# Altium schematic symbol library BMS_V2.1_Adv.SchLib: 129 symbols (part 2 of 3)
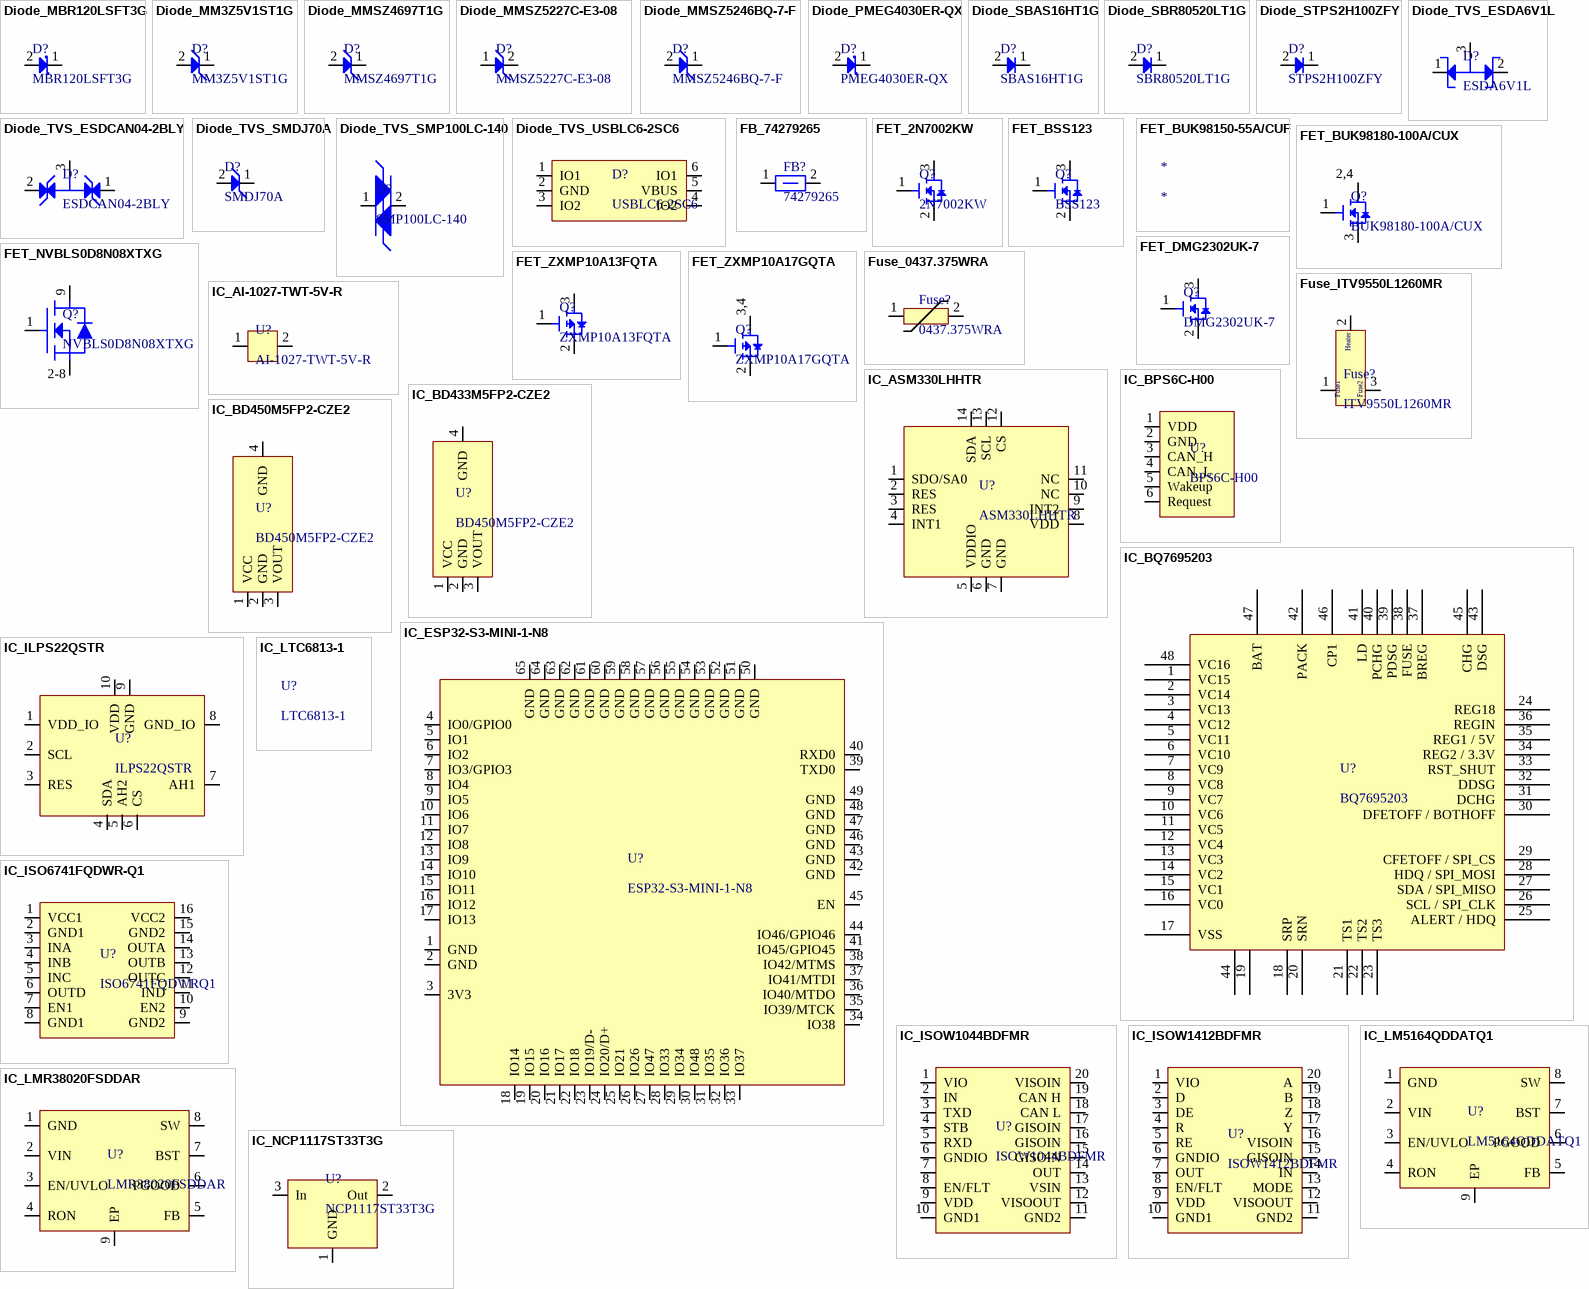
[diagram p5: symbols Diode_MBR120LSFT3G to IC_NCP1117ST33T3G]

## FET_BUK98180-100A/CUX
designator Q?, comment BUK98180-100A/CUX
N-Channel 100 V 4.6A (Tc) 8W (Tc) Surface Mount SOT-223; Manufacturer: Nexperia; AEC-Q: 101; Forward Voltage: 100V; Max Temp: 150 degC; Min Temp: -55 degC; Rds ON: 147mOhms @ 5A. 10V; Manufacturer Part Number: BUK98180-100A/CUX; Category: MOSFET; ComponentLink1Description: Datasheet; ComponentLink1URL: https://assets.nexperia.com/documents/data-sheet/BUK98180-100A.pdf; Forward Current: 4.6A; Mount Type: Surface Mount; Package: SOT 22-3; Power: 8W; RoHS: Yes; Supplier 1: Digikey; Supplier 1 Part Number: 1727-2225-1-ND; Supplier 1 pricing per Unit: 49.24 INR; Supplier: Mouser; Supplier Part Number: 771-BUK98180-100ACUX; Supplier pricing per Unit: 48.37 INR; Value 1: BUK98180-100A/CUX; Value: 100V 4.6A; Value Display: 100V 4.6A; Voltage: 100V; Channel: N-Channel
footprint SOT230P700X180-4N (SOT223, 4-Leads, Body 6.50x7.00mm (avg), Pitch 2.30mm, IPC Medium Density)
pins: 1 Gate, 2 Drain, 3 Source, 4 Drain
text: 2,4

## FET_DMG2302UK-7
designator Q?, comment DMG2302UK-7
N-Channel 20 V 2.8A (Ta) 660mW (Ta) Surface Mount SOT-23-3; Manufacturer: Diodes Inc.; AEC-Q: 101; Forward Voltage: 20V; Max Temp: 150 degC; Min Temp: -55 degC; Rds ON: 90mOhms @ 3.6A, 4.5V; Manufacturer Part Number: DMG2302UK-7; Value: 20V 2.8A; RoHS: Yes; Category: MOSFET; ComponentLink1Description: Datasheet; ComponentLink1URL: https://www.diodes.com/assets/Datasheets/DMG2302UK.pdf; Forward Current: 2.8A; Mount Type: Surface Mount; Package: SOT 23-3; Power: 660mW; Supplier 1: Digikey; Supplier 1 Part Number: DMG2302UK-7DICT-ND; Supplier 1 pricing per Unit: 28.35 INR; Supplier: Mouser; Supplier Part Number: 621-DMG2302UK-7; Supplier pricing per Unit: 22.52 INR; Value 1: DMG2302UK-7; Value Display: 20V 2.8A; Voltage: 20V; Channel: N-Channel
footprint SOT95P255X140-3N (SOT23, 3-Leads, Body 2.90x2.55mm, Pitch 0.95mm, IPC Medium Density)
pins: 1 Gate, 2 Source, 3 Drain

## FET_NVBLS0D8N08XTXG
designator Q?, comment NVBLS0D8N08XTXG
N-Channel 80 V 457A (Tc) 325W (Tc) Surface Mount 8-HPSOF; Manufacturer: OnSemi; Voltage: 80V; AEC-Q: 101; Max Temp: 175 degC; Min Temp: -55 degC; Rds ON: 0.79mOhms @80A,10V; Manufacturer Part Number: NVBLS0D8N08XTXG; Value: 80V 457A; Package: 8 HPSOF; RoHs: Yes; Category: MOSFET; Supplier: Mouser; Supplier 1 pricing per Unit: 575.53 INR; ComponentLink1Description: Datasheet; ComponentLink1URL: https://www.onsemi.com/download/data-sheet/pdf/nvbls0d8n08x-d.pdf; Supplier 1: Digikey; Value 1: NVBLS0D8N08XTXG; Value Display: 80V 457A; Supplier 1 Part Number: 488-NVBLS0D8N08XTXGCT-ND; Supplier Part Number: 863-NVBLS0D8N08XTXG; Supplier pricing per Unit: 574.63 INR; Mount Type: Surface Mount; Forward Current: 457A; Forward Voltage: 80V; Power: 325W; Channel: N-Channel
footprint DPAK120P1168X240-9N (TO, 9-Pads, Body 8.34x8.36mm (max), IPC Medium Density)
pins: 1 Gate, 2 Source, 3 Source, 4 Source, 5 Source, 6 Source, 7 Source, 8 Source, 9 Drain
text: 2-8

## FET_ZXMP10A13FQTA
designator Q?, comment ZXMP10A13FQTA
P-Channel 100 V 600mA (Ta) 625mW (Ta) Surface Mount SOT-23-3; Manufacturer: Diodes Inc.; AEC-Q: 101; Forward Voltage: 100V; Max Temp: 150 degC; Min Temp: -55 degC; Rds ON: 1Ohm @ 600mA, -10V; Category: MOSFET; ComponentLink1Description: Datasheet; ComponentLink1URL: https://www.diodes.com/assets/Datasheets/ZXMP10A13FQ.pdf; Forward Current: 600mA; Manufacturer Part Number: ZXMP10A13FQTA; Mount Type: Surface Mount; Package: SOT 23-3; Power: 625mW; RoHS: Yes; Supplier 1: Digikey; Supplier 1 Part Number: ZXMP10A13FQTADICT-ND; Supplier 1 pricing per Unit: 60.93 INR; Supplier: Mouser; Supplier Part Number: 621-ZXMP10A13FQTA; Supplier pricing per Unit: 55.80 INR; Value 1: ZXMP10A13FQTA; Value: 100V 600mA; Value Display: 100V 600mA; Voltage: 100V; Channel: P-Channel
footprint SOT95P255X140-3N (SOT23, 3-Leads, Body 2.90x2.55mm, Pitch 0.95mm, IPC Medium Density)
pins: 1 Gate, 2 Source, 3 Drain

## FET_ZXMP10A17GQTA
designator Q?, comment ZXMP10A17GQTA
P-Channel 100 V 2.4A (Ta) 2W (Ta) Surface Mount SOT-223-3; Manufacturer: Diodes Inc.; AEC-Q: 101; Forward Voltage: 100V; Max Temp: 150 degC; Min Temp: -55 degC; Rds ON: 350mΩ @ 2.4A @ -10V; Category: MOSFET; ComponentLink1Description: Datasheet; ComponentLink1URL: https://www.diodes.com/assets/Datasheets/ZXMP10A17GQ.pdf; Forward Current: 2.4A; Manufacturer Part Number: ZXMP10A17GQTA; Mount Type: Surface Mount; Package: SOT 23-3; Power: 2W; RoHS: Yes; Supplier 1: Digikey; Supplier 1 Part Number: ZXMP10A17GQTADICT-ND; Supplier 1 pricing per Unit: 85.13 INR; Supplier: Mouser; Supplier Part Number: 621-ZXMP10A17GQTA; Supplier pricing per Unit: 85.07 INR; Value 1: ZXMP10A17GQTA; Value: 100V 2.4A; Value Display: 100V 2.4A; Voltage: 100V; Channel: P-Channel
footprint SOT230P700X180-4N (SOT223, 4-Leads, Body 6.50x7.00mm (avg), Pitch 2.30mm, IPC Medium Density)
pins: 1 Gate, 2 Source, 3 Drain, 4 Drain
text: 3,4

## Fuse_0437.375WRA
designator Fuse?, comment 0437.375WRA
375 mA 125 V AC 125 V DC Fuse Board Mount (Cartridge Style Excluded) Surface Mount 1206 (3216 Metric); Manufacturer: LittleFuse; Value: 125V - 375mA; Max Temp: 150 degC; Min Temp: -55 degC; Voltage: 125V; AEC-Q: 200; Manufacturer Part Number: 0437.375WRA; Category: Fuse; ComponentLink1Description: Datasheet; ComponentLink1URL: https://www.littelfuse.com/~/media/electronics/datasheets/fuses/littelfuse_fuse_437a_datasheet.pdf.pdf; Mount Type: Surface Mount; Package: SMT; RoHS: Yes; Supplier 1: Digikey; Supplier 1 Part Number: 18-0437.375WRACT-ND; Supplier 1 pricing per Unit: 119.23 INR; Supplier: Mouser; Supplier Part Number: 576-0437.375WRA; Supplier pricing per Unit: 115.93 INR; Value 1: 0437.375WRA; Value Display: 125V - 375mA
footprint FUSE_0437.375WRA (0437.375WRA)
pins: 1, 2

## Fuse_ITV9550L1260MR
designator Fuse?, comment ITV9550L1260MR
60A 85 VDC Fuse Board Mount Surface Mount; Manufacturer: LittleFuse; Value: 80 V - 60 A; Max Temp: 65 degC; Min Temp: -10 degC; Voltage: 80V; AEC-Q: NA; Manufacturer Part Number: ITV9550L1260MR; Category: Fuse; ComponentLink1Description: Datasheet; ComponentLink1URL: https://mm.digikey.com/Volume0/opasdata/d220001/medias/docus/3734/ITV9550_30A_45A_60A_Series_2022.pdf; Mount Type: Surface Mount; Package: SMT; RoHS: Yes; Supplier 1: Digikey; Supplier 1 Part Number: 18-ITV9550L1260MRCT-ND; Supplier 1 pricing per Unit: 1276.55 INR; Supplier: Mouser; Supplier Part Number: 576-ITV9550L1260MR; Supplier pricing per Unit: 1030.82 INR; Value 1: ITV9550L1260MR; Value Display: 80 V - 60 A
footprint FUSE_ITV9550L1260MR (ITV9550L1260MR)
pins: 1, 2 Heater, 3
text: Fuse1; Fuse2

## IC_AI-1027-TWT-5V-R
designator U?, comment AI-1027-TWT-5V-R
Buzzers Indicator, Internally Driven Electromechanical/Magnetic 5 V 30mA 2.7kHz 80dB @ 5V, 10cm Through Hole PC Pins; Manufacturer: PUIaudio; AEC-Q: NA; Max Temp: 80 degC; Min Temp: -20 degC; Value Display: 5V - 30mA; Category: Buzzer; ComponentLink1Description: Datasheet; ComponentLink1URL: https://docs.google.com/gview?url=https://api.puiaudio.com/filename/AI-1027-TWT-5V-R.pdf&embedded=true; Manufacturer Part Number: AI-1027-TWT-5V-R; Mount Type: TH; Package: TH; RoHS: Yes; Supplier 1: Digikey; Supplier 1 Part Number: 668-1339-ND; Supplier 1 pricing per Unit: 124.45 INR; Supplier: Mouser; Supplier Part Number: 665-AI-1027TWT5VR; Supplier pricing per Unit: 123.43 INR; Value 1: AI-1027-TWT-5V-R; Value: 5V 30mA 2.7kHz; Voltage: 5V
footprint Buzzer (Buzzer - Through Hole)
pins: 1 +ve, 2 -ve

## IC_ASM330LHHTR
designator U?, comment ASM330LHHTR
Accelerometer, Gyroscope, Temperature, 6 Axis Sensor I2C, SPI Output; Manufacturer: ST; AEC-Q: 100; Max Temp: 105 degC; Min Temp: -40 degC; Value: 6D IMU; Voltage: 3.3V; Category: Inertial module; ComponentLink1Description: Datasheet; ComponentLink1URL: https://www.st.com/resource/en/datasheet/asm330lhh.pdf; Manufacturer Part Number: ASM330LHHTR; Mount Type: Surface Mount; Package: HLGA; RoHS: Yes; Supplier 1: Digikey; Supplier 1 Part Number: 497-19078-1-ND; Supplier 1 pricing per Unit: 850.9 INR; Supplier: Mouser; Supplier Part Number: 511-ASM330LHHTR; Supplier pricing per Unit: 810.11 INR; Value 1: ASM330LHHTR; Value Display: ASM330LHHTR
footprint QFN50P300X250X86-14N_ASM330LHHTR (QFN, 14-Leads, Body 3.00x2.50mm, Pitch 0.50mm, IPC Medium Density)
pins: 1 SDO/SA0, 2 RES, 3 RES, 4 INT1, 5 VDDIO, 6 GND, 7 GND, 8 VDD, 9 INT2, 10 NC, 11 NC, 12 CS, 13 SCL, 14 SDA

## IC_BD433M5FP2-CZE2
designator U?, comment BD450M5FP2-CZE2
Linear Voltage Regulator IC Positive Fixed 3.3V Output 500mA TO-263-3F; Manufacturer: ROHM Semiconductor; Manufacturer Part Number: BD433M5FP2-CZE2; AEC-Q: 100; Max Temp: 150 degC; Min Temp: -40 degC; Value: 3.3V - 500 mA; Category: LDO; ComponentLink1Description: Datasheet; ComponentLink1URL: https://fscdn.rohm.com/en/products/databook/datasheet/ic/power/linear_regulator/bd4xxm5xxx-c-e.pdf; Mount Type: Surface Mount; Package: TO263-3; RoHS: Yes; Supplier 1: Digikey; Supplier 1 Part Number: BD433M5FP2-CZE2CT-ND; Supplier 1 pricing per Unit: 234.52 INR; Supplier: Mouser; Supplier Part Number: 755-BD433M5FP2-CZE2; Supplier pricing per Unit: 234.35 INR; Value 1: BD433M5FP2-CZE2; Value Display: 3.3V - 500 mA; Voltage: 3.3V
footprint DPAK254P1530X470-4N (D2-PAK, 4-Pads, Body 7.68x8.74mm (max), IPC Medium Density)
pins: 1 VCC, 2 GND, 3 VOUT, 4 GND

## IC_BD450M5FP2-CZE2
designator U?, comment BD450M5FP2-CZE2
Linear Voltage Regulator IC Positive Fixed 5V Output 500mA TO-263-3F; Manufacturer: ROHM Semiconductor; AEC-Q: 100; Max Temp: 150 degC; Min Temp: -40 degC; Value: 5V - 500 mA; Category: LDO; ComponentLink1Description: Datasheet; ComponentLink1URL: https://fscdn.rohm.com/en/products/databook/datasheet/ic/power/linear_regulator/bd4xxm5xxx-c-e.pdf; Manufacturer Part Number: BD450M5FP2-CZE2; Mount Type: Surface Mount; Package: TO263-3; RoHS: Yes; Supplier 1: Digikey; Supplier 1 Part Number: BD450M5FP2-CZE2CT-ND; Supplier 1 pricing per Unit: 161.08 INR; Supplier: Mouser; Supplier Part Number: 755-BD450M5FP2-CZE2; Supplier pricing per Unit: 164.30 INR; Value 1: BD450M5FP2-CZE2; Value Display: 5V - 500 mA; Voltage: 5V
footprint DPAK254P1530X470-4N (D2-PAK, 4-Pads, Body 7.68x8.74mm (max), IPC Medium Density)
pins: 1 VCC, 2 GND, 3 VOUT, 4 GND

## IC_BPS6C-H00
designator U?, comment BPS6C-H00  (no BOM)
Battery Pressure Sensor; Manufacturer: Honeywell; AEC-Q: 100; Max Temp: 105 degC; Min Temp: -40 degC; Value: 12V - 30mA; Voltage: 12V; Category: Pressure Sensor; ComponentLink1Description: Datasheet; ComponentLink1URL: https://prod-edam.honeywell.com/content/dam/honeywell-edam/sps/siot/en-us/products/aero-and-transportation-sensing/aero-and-transportation-sensors/electric-vehicles-sensors/bps-series/documents/sps-sst-bps-series-datasheet-006004-en.pdf?download=false; Manufacturer Part Number: BPS6C-H00; Mount Type: Panel Mount; Package: Panel; RoHS: Yes; Supplier 1: Digikey; Supplier 1 Part Number: 480-BPS6C-H00-ND; Supplier 1 pricing per Unit: 6170.52 INR; Supplier: Mouser; Supplier Part Number: 785-BPS6C-H00; Supplier pricing per Unit: 5162.46 INR; Value 1: BPS6C-H00; Value Display: 12V - 30mA
pins: 1 VDD, 2 GND, 3 CAN_H, 4 CAN_L, 5 Wakeup, 6 Request

## IC_BQ7695203
designator U?, comment BQ7695203
SPI 5V LDO enabled; Manufacturer: Texas Instruments; Manufacturer Part Number: BQ7695203PFBR; Value: BQ7695203PFBR; Value Display: AFE; AEC-Q: NA; Max Temp: 85 degC; Min Temp: -40 degC; Communication: SPI; Package: TQFP; RoHS: Yes; Category: Battery Management IC; LDO: 5V; Supplier: Mouser; Supplier 1 pricing per Unit: 451.09 INR; ComponentLink1Description: Datasheet; ComponentLink1URL: https://www.ti.com/lit/ds/symlink/bq76952.pdf?ts=1714053938138&ref_url=https%253A%252F%252Fwww.ti.com%252Fproduct%252FBQ76952; Supplier 1: Digikey; Value 1: BQ7695203PFBR; Supplier 1 Part Number: 296-BQ7695203PFBRCT-ND; Supplier Part Number: 595-BQ7695203PFBR; Supplier pricing per Unit: 443.85 INR; Mount Type: Surface Mount
footprint TSQFP50P900X900X120-48N (TSQFP, 48-Leads, Body 7.00x7.00mm, Pitch 0.50mm, IPC Medium Density)
pins: 1 VC15, 2 VC14, 3 VC13, 4 VC12, 5 VC11, 6 VC10, 7 VC9, 8 VC8, 9 VC7, 10 VC6, 11 VC5, 12 VC4, 13 VC3, 14 VC2, 15 VC1, 16 VC0, 17 VSS, 18 SRP, 19, 20 SRN, 21 TS1, 22 TS2, 23 TS3, 24 REG18, 25 ALERT / HDQ, 26 SCL / SPI_CLK, 27 SDA / SPI_MISO, 28 HDQ / SPI_MOSI, 29 CFETOFF / SPI_CS, 30 DFETOFF / BOTHOFF, 31 DCHG, 32 DDSG, 33 RST_SHUT, 34 REG2 / 3.3V, 35 REG1 / 5V, 36 REGIN, 37 BREG, 38 FUSE, 39 PDSG, 40 PCHG, 41 LD, 42 PACK, 43 DSG, 44, 45 CHG, 46 CP1, 47 BAT, 48 VC16

## IC_ESP32-S3-MINI-1-N8
designator U?, comment ESP32-S3-MINI-1-N8
Multiprotocol Modules SMD module, ESP32-S3FN8, 8 MB SPI flash, PCB antenna; Manufacturer: Espressif; AEC-Q: NA; Data Flash: 8 MB; Max Temp: 85 degC; Min Temp: -40 degC; Value Display: MCU; Category: MCU; ComponentLink1Description: Datasheet; ComponentLink1URL: https://www.espressif.com/sites/default/files/documentation/esp32-s3-mini-1_mini-1u_datasheet_en.pdf; Manufacturer Part Number: ESP32-S3-MINI-1-N8; Mount Type: Surface Mount; Package: Module; RoHS: Yes; Supplier 1: Digikey; Supplier 1 Part Number: 1965-ESP32-S3-MINI-1-N8CT-ND; Supplier 1 pricing per Unit: 259.84 INR; Supplier: Mouser; Supplier Part Number: 356-ESP32-S3-MINI1N8; Supplier pricing per Unit: 258.54 INR; Value 1: ESP32-S3-MINI-1-N8; Value: ESP32-S3-MINI-1-N8
footprint ESP32-S3_MINI (Multiprotocol Modules SMD module, ESP32-S3FN8, 8 MB SPI flash, PCB antenna)
pins: 1 GND, 2 GND, 3 3V3, 4 IO0/GPIO0, 5 IO1, 6 IO2, 7 IO3/GPIO3, 8 IO4, 9 IO5, 10 IO6, 11 IO7, 12 IO8, 13 IO9, 14 IO10, 15 IO11, 16 IO12, 17 IO13, 18 IO14, 19 IO15, 20 IO16, 21 IO17, 22 IO18, 23 IO19/D-, 24 IO20/D+, 25 IO21, 26 IO26, 27 IO47, 28 IO33, 29 IO34, 30 IO48, 31 IO35, 32 IO36, 33 IO37, 34 IO38, 35 IO39/MTCK, 36 IO40/MTDO, 37 IO41/MTDI, 38 IO42/MTMS, 39 TXD0, 40 RXD0, 41 IO45/GPIO45, 42 GND, 43 GND, 44 IO46/GPIO46, 45 EN, 46 GND, 47 GND, 48 GND, 49 GND, 50 GND, 51 GND, 52 GND, 53 GND, 54 GND, 55 GND, 56 GND, 57 GND, 58 GND, 59 GND, 60 GND, 61 GND, 62 GND, 63 GND, 64 GND, 65 GND

## IC_ILPS22QSTR
designator U?, comment ILPS22QSTR
Pressure Sensor 3.77PSI ~ 58.89PSI (26kPa ~ 406kPa) Absolute 24 b 10-WFLGA; Manufacturer: ST; AEC-Q: NA; Max Temp: 105 degC; Min Temp: -40 degC; Value: 3.3V - 50uA; Voltage: 3.3V; Category: Pressure Sensor; ComponentLink1Description: Datasheet; ComponentLink1URL: https://www.st.com/resource/en/datasheet/ilps22qs.pdf; Manufacturer Part Number: ILPS22QSTR; Mount Type: Surface Mount; Package: HLGA; RoHS: Yes; Supplier 1: Digikey; Supplier 1 Part Number: 497-ILPS22QSTRCT-ND; Supplier 1 pricing per Unit: 377.56 INR; Supplier: Mouser; Supplier Part Number: 511-ILPS22QSTR; Supplier pricing per Unit: 395.35 INR; Value 1: ILPS22QSTR; Value Display: 3.3V - 50uA
footprint QFN50P200X200X80-10N (QFN, 10-Leads, Body 2.00x2.00mm, Pitch 0.50mm, IPC Medium Density)
pins: 1 VDD_IO, 2 SCL, 3 RES, 4 SDA, 5 AH2, 6 CS, 7 AH1, 8 GND_IO, 9 GND, 10 VDD

## IC_ISO6741FQDWR-Q1
designator U?, comment ISO6741FQDWRQ1
Digital Isolators Automotive, general-purpose, quad-channel, 3/1 digital isolator 16-SOIC -40 to 125; Manufacturer: Texas Instruments; AEC-Q: 100; Max Temp: 125 degC; Min Temp: -40 degC; Manufacturer Part Number: ISO6741FQDWRQ1; Category: Digital Isolator; ComponentLink1Description: Datasheet; ComponentLink1URL: https://www.ti.com/lit/ds/symlink/iso6741-q1.pdf?ts=1718348796855&ref_url=https%253A%252F%252Fwww.ti.com%252Fproduct%252FISO6741-Q1; Mount Type: Surface Mount; Package: DFM; RoHS: Yes; Supplier 1: Digikey; Supplier 1 Part Number: 296-ISO6741FQDWRQ1CT-ND; Supplier 1 pricing per Unit: 219.34 INR; Supplier: Mouser; Supplier Part Number: 595-ISO6741FQDWRQ1; Supplier pricing per Unit: 219.34 INR; Value 1: ISO6741FQDWRQ1; Value: ISO6741FQDWRQ1; Value Display: ISO6741FQDWRQ1
footprint SOIC127P1030X264-16N (SOIC, 16-Leads, Body 10.65x7.44mm, Pitch 1.27mm, IPC Medium Density)
pins: 1 VCC1, 2 GND1, 3 INA, 4 INB, 5 INC, 6 OUTD, 7 EN1, 8 GND1, 9 GND2, 10 EN2, 11 IND, 12 OUTC, 13 OUTB, 14 OUTA, 15 GND2, 16 VCC2

## IC_ISOW1044BDFMR
designator U?, comment ISOW1044BDFMR
1/1 Transceiver, Isolated Half CANbus 20-SOIC; Manufacturer: Texas Instruments; AEC-Q: NA; Max Temp: 125 degC; Min Temp: -40 degC; Voltage: 5V; Manufacturer Part Number: ISOW1044BDFMR; Category: Isolated CAN; ComponentLink1Description: Datasheet; ComponentLink1URL: https://www.ti.com/lit/ds/symlink/isow1044.pdf?ts=1694787726249&ref_url=https%253A%252F%252Fwww.ti.com%252Fsitesearch%252Fen-us%252Fdocs%252Funiversalsearch.tsp%253FlangPref%253Den-US%2526searchTerm%253DISOW1044BDFMR%2526nr%253D6; Mount Type: Surface Mount; Package: DFM; RoHS: Yes; Supplier 1: Digikey; Supplier 1 Part Number: 296-ISOW1044BDFMRCT-ND; Supplier 1 pricing per Unit: 736.25 INR; Supplier: Mouser; Supplier Part Number: 595-ISOW1044BDFMR; Supplier pricing per Unit: 881.54 INR; Value 1: ISOW1044BDFMR; Value: ISOW1044BDFMR; Value Display: ISOW1044BDFMR
footprint SOIC127P1030X355-20N (SOIC, 20-Leads, Body 12.83x7.50mm, Pitch 1.27mm, IPC Medium Density)
pins: 1 VIO, 2 IN, 3 TXD, 4 STB, 5 RXD, 6 GNDIO, 7, 8 EN/FLT, 9 VDD, 10 GND1, 11 GND2, 12 VISOOUT, 13 VSIN, 14 OUT, 15 GISOIN, 16 GISOIN, 17 GISOIN, 18 CAN L, 19 CAN H, 20 VISOIN

## IC_ISOW1412BDFMR
designator U?, comment ISOW1412BDFMR
RS-422/RS-485 Interface IC EMC protected, 500-Kbps, full-duplex, 5-kVrms isolated RS-485 & RS-422 transceiver 16-SOIC -40 to 125; Manufacturer: Texas Instruments; AEC-Q: NA; Max Temp: 125 degC; Min Temp: -40 degC; Voltage: 5V; Manufacturer Part Number: ISOW1412BDFMR; Category: Isolated RS485; ComponentLink1Description: Datasheet; ComponentLink1URL: https://www.ti.com/lit/ds/symlink/isow1432.pdf?ts=1718250901222&ref_url=https%253A%252F%252Fwww.mouser.in%252F; Mount Type: Surface Mount; Package: DFM; RoHS: Yes; Supplier 1: Digikey; Supplier 1 Part Number: 296-ISOW1412BDFMRCT-ND; Supplier 1 pricing per Unit: 742.42 INR; Supplier: Mouser; Supplier Part Number: 595-ISOW1412BDFMR; Supplier pricing per Unit: 885.71 INR; Value 1: ISOW1412BDFMR; Value: ISOW1412BDFMR; Value Display: ISOW1412BDFMR
footprint SOIC127P1030X355-20N (SOIC, 20-Leads, Body 12.83x7.50mm, Pitch 1.27mm, IPC Medium Density)
pins: 1 VIO, 2 D, 3 DE, 4 R, 5 RE, 6 GNDIO, 7 OUT, 8 EN/FLT, 9 VDD, 10 GND1, 11 GND2, 12 VISOOUT, 13 MODE, 14 IN, 15 GISOIN, 16 VISOIN, 17 Y, 18 Z, 19 B, 20 A

## IC_LM5164QDDATQ1
designator U?, comment LM5164QDDATQ1
Buck Switching Regulator IC Positive Adjustable 1.2V 1 Output 1A 8-PowerSOIC (0.154", 3.90mm Width); Manufacturer: Texas Instruments; AEC-Q: 100; Max Temp: 125 degC; Min Temp: -40 degC; Voltage: 6V - 100V; Manufacturer Part Number: LM5164QDDATQ1; Category: Buck Converter IC; ComponentLink1Description: Datasheet; ComponentLink1URL: https://www.ti.com/lit/ds/symlink/lm5164-q1.pdf?ts=1718880217387&ref_url=https%253A%252F%252Fwww.ti.com%252Fproduct%252FLM5164-Q1%253FkeyMatch%253DLM5164-Q1%2526tisearch%253Dsearch-everything%2526usecase%253DGPN-ALT%2526bm-verify%253DAAQAAAAJ_____xzDJXrq-9A6Xj2X6CFq4U9CnYJfOnv2-i7kAAIFlwommpyQTnIoeUIiXVf0FCMaQxNtdkc18Jt8pnunOvQ15Kp4etNz5oIc9Bs_kEF_oPeSsicw2ScVg56zPJbt7YbYx0wwCf9XDxBP5Az4MzGfKDlMecQltfQVG-VLUEYjJCBOJ_j59ZKl3FQN7qJBLN9hcVRnUMdn64UUYbZOk-oLyNDM26rG7hpc4ODnaksCDWovtauWfOC0qsAEpBpHJZyB34NdMAii5NuywNjw7AY6V45FFZ_U1hmrm5ZhetodyeETLVLy2EtvcFPGHwxhHgiMuDc_v0f7rPHePPwynHMFoEGJttwY9fxRHwP1UELUTe5KWElAsc5IpMKA6bgw5avwzDZ1itc3Yub4ncTS6wNFB1qKopSq7UnHM9iNE7H5zTzySldVEWy9KnPa8sdqrPvi6s3W9vYQJdMHEu476Eynz45_; Mount Type: Surface Mount; Package: DDA (SO Power PAD); RoHS: Yes; Supplier 1: Digikey; Supplier 1 Part Number: 296-LM5164QDDATQ1CT-ND; Supplier 1 pricing per Unit: 435.24 INR; Supplier: Mouser; Supplier Part Number: 595-LM5164QDDATQ1; Supplier pricing per Unit: 434.51 INR; Value 1: LM5164QDDATQ1; Value: LM5164QDDATQ1; Value Display: LM5164QDDATQ1
footprint SOIC127P600X170_HS-9N LM5164 (SOIC, 8-Leads, Body 4.90x3.90mm, Pitch 1.27mm, Thermal Pad 3.10x2.50mm, IPC Medium Density)
pins: 1 GND, 2 VIN, 3 EN/UVLO, 4 RON, 5 FB, 6 PGOOD, 7 BST, 8 SW, 9 EP

## IC_LMR38020FSDDAR
designator U?, comment LMR38020FSDDAR
Buck Switching Regulator IC Positive Adjustable 1V 1 Output 2A 8-PowerSOIC (0.154", 3.90mm Width); Manufacturer: Texas Instruments; AEC-Q: NA; Max Temp: 150 degC; Min Temp: -40 degC; Voltage: 4.5V - 80V; Category: Buck Converter IC; ComponentLink1Description: Datasheet; ComponentLink1URL: https://www.ti.com/lit/ds/symlink/lmr38020.pdf?ts=1730698175380&ref_url=https%253A%252F%252Fwww.ti.com%252Fproduct%252FLMR38020%253FkeyMatch%253DLMR38020%2526tisearch%253Duniversal_search; Manufacturer Part Number: LMR38020FSDDAR; Mount Type: Surface Mount; Package: DDA (SO Power PAD); RoHS: Yes; Supplier 1: Digikey; Supplier 1 Part Number: 296-LMR38020FSDDARCT-ND; Supplier 1 pricing per Unit: 207.70 INR; Supplier: Mouser; Supplier Part Number: 595-LMR38020FSDDAR; Supplier pricing per Unit: 206.00 INR; Value 1: LMR38020FSDDAR; Value: LMR38020FSDDAR; Value Display: LMR38020FSDDAR
footprint SOIC127P600X170_HS-9N LM5164 (SOIC, 8-Leads, Body 4.90x3.90mm, Pitch 1.27mm, Thermal Pad 3.10x2.50mm, IPC Medium Density)
pins: 1 GND, 2 VIN, 3 EN/UVLO, 4 RON, 5 FB, 6 PGOOD, 7 BST, 8 SW, 9 EP

## IC_LTC6813-1
designator U?, comment LTC6813-1
Category: Battery Management IC

## IC_NCP1117ST33T3G
designator U?, comment NCP1117ST33T3G
LDO Voltage Regulators 3.3V 1A Positive; Manufacturer: OnSemi; AEC-Q: NA; Max Temp: 125 degC; Min Temp: 0 degC; Value: 3.3V - 1A; Voltage: 20V (Max); Category: LDO; ComponentLink1Description: Datasheet; ComponentLink1URL: https://www.onsemi.com/pdf/datasheet/ncp1117-d.pdf; Manufacturer Part Number: NCP1117ST33T3G; Mount Type: Surface Mount; Package: SOT 22-3; RoHS: Yes; Supplier 1: Digikey; Supplier 1 Part Number: NCP1117ST33T3GOSCT-ND; Supplier 1 pricing per Unit: 93.9 INR; Supplier: Mouser; Supplier Part Number: 863-NCP1117ST33T3G; Supplier pricing per Unit: 56.71 INR; Value 1: NCP1117ST33T3G; Value Display: 3.3V - 1A
footprint SOT230P700X180-4N - NCP (SOT223, 4-Leads, Body 6.50x7.00mm (avg), Pitch 2.30mm, IPC Medium Density)
pins: 1 GND, 2 Out, 3 In

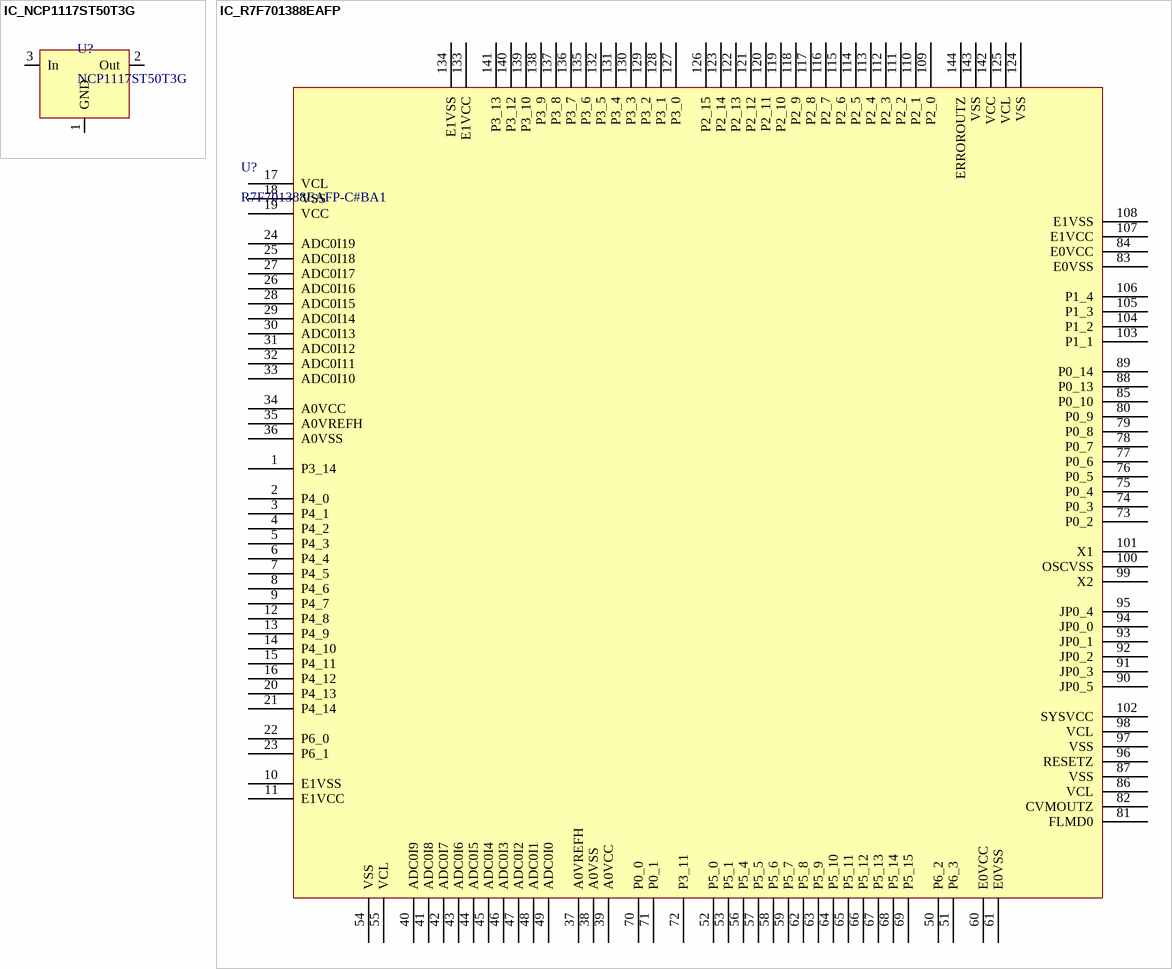
[diagram p2: symbols IC_NCP1117ST50T3G to IC_R7F701388EAFP]

## IC_NCP1117ST50T3G
designator U?, comment NCP1117ST50T3G
LDO Voltage Regulators 5V 1A Positive; Manufacturer: OnSemi; AEC-Q: NA; Max Temp: 125 degC; Min Temp: 0 degC; Value: 5V - 1A; Voltage: 20V (Max); Category: LDO; ComponentLink1Description: Datasheet; ComponentLink1URL: https://www.onsemi.com/pdf/datasheet/ncp1117-d.pdf; Manufacturer Part Number: NCP1117ST50T3G; Mount Type: Surface Mount; Package: SOT 22-3; RoHS: Yes; Supplier 1: Digikey; Supplier 1 Part Number: NCP1117ST50T3GOSCT-ND; Supplier 1 pricing per Unit: 94.18 INR; Supplier: Mouser; Supplier Part Number: 863-NCP1117ST50T3G; Supplier pricing per Unit: 56.71 INR; Value 1: NCP1117ST50T3G; Value Display: 5V - 1A
footprint SOT230P700X180-4N - NCP (SOT223, 4-Leads, Body 6.50x7.00mm (avg), Pitch 2.30mm, IPC Medium Density)
pins: 1 GND, 2 Out, 3 In

## IC_R7F701388EAFP
designator U?, comment R7F701388EAFP-C#BA1
32-bit Microcontrollers - MCU 32BIT MCU RH850/P1L-C 1MB LQFP144; Manufacturer: Renesas; AEC-Q: 100; Max Temp: 150 degC; Min Temp: -40 degC; RAM: 100KB; Value: 120 MHz; Manufacturer Part Number: R7F701388EAFP-C#BA1; Category: MCU; ComponentLink1Description: Datasheet; ComponentLink1URL: https://www.renesas.com/us/en/document/mah/rh850p1l-c-group-users-manual-hardware-r01uh0592ej0120?r=1054221; Data Flash: 1 MB; Mount Type: Surface Mount; Package: LQFP144; RoHS: Yes; Supplier 1: Digikey; Supplier 1 Part Number: 559-R7F701388EAFP-C#BA1-ND; Supplier 1 pricing per Unit: 1495.30 INR; Supplier: Mouser; Supplier Part Number: 968-7F701388EAFPCBA1; Supplier pricing per Unit: 979.12/720 INR; Value 1: R7F701388EAFP; Value Display: MCU
pins: 1 P3_14, 2 P4_0, 3 P4_1, 4 P4_2, 5 P4_3, 6 P4_4, 7 P4_5, 8 P4_6, 9 P4_7, 10 E1VSS, 11 E1VCC, 12 P4_8, 13 P4_9, 14 P4_10, 15 P4_11, 16 P4_12, 17 VCL, 18 VSS, 19 VCC, 20 P4_13, 21 P4_14, 22 P6_0, 23 P6_1, 24 ADC0I19, 25 ADC0I18, 26 ADC0I16, 27 ADC0I17, 28 ADC0I15, 29 ADC0I14, 30 ADC0I13, 31 ADC0I12, 32 ADC0I11, 33 ADC0I10, 34 A0VCC, 35 A0VREFH, 36 A0VSS, 37 A0VREFH, 38 A0VSS, 39 A0VCC, 40 ADC0I9, 41 ADC0I8, 42 ADC0I7, 43 ADC0I6, 44 ADC0I5, 45 ADC0I4, 46 ADC0I3, 47 ADC0I2, 48 ADC0I1, 49 ADC0I0, 50 P6_2, 51 P6_3, 52 P5_0, 53 P5_1, 54 VSS, 55 VCL, 56 P5_4, 57 P5_5, 58 P5_6, 59 P5_7, 60 E0VCC, 61 E0VSS, 62 P5_8, 63 P5_9, 64 P5_10, 65 P5_11, 66 P5_12, 67 P5_13, 68 P5_14, 69 P5_15, 70 P0_0, 71 P0_1, 72 P3_11, 73 P0_2, 74 P0_3, 75 P0_4, 76 P0_5, 77 P0_6, 78 P0_7, 79 P0_8, 80 P0_9, 81 FLMD0, 82 CVMOUTZ, 83 E0VSS, 84 E0VCC, 85 P0_10, 86 VCL, 87 VSS, 88 P0_13, 89 P0_14, 90 JP0_5, 91 JP0_3, 92 JP0_2, 93 JP0_1, 94 JP0_0, 95 JP0_4, 96 RESETZ, 97 VSS, 98 VCL, 99 X2, 100 OSCVSS, 101 X1, 102 SYSVCC, 103 P1_1, 104 P1_2, 105 P1_3, 106 P1_4, 107 E1VCC, 108 E1VSS, 109 P2_0, 110 P2_1, 111 P2_2, 112 P2_3, 113 P2_4, 114 P2_5, 115 P2_6, 116 P2_7, 117 P2_8, 118 P2_9, 119 P2_10, 120 P2_11, 121 P2_12, 122 P2_13, 123 P2_14, 124 VSS, 125 VCL, 126 P2_15, 127 P3_0, 128 P3_1, 129 P3_2, 130 P3_3, 131 P3_4, 132 P3_5, 133 E1VCC, 134 E1VSS, 135 P3_6, 136 P3_7, 137 P3_8, 138 P3_9, 139 P3_10, 140 P3_12, 141 P3_13, 142 VCC, 143 VSS, 144 ERROROUTZ

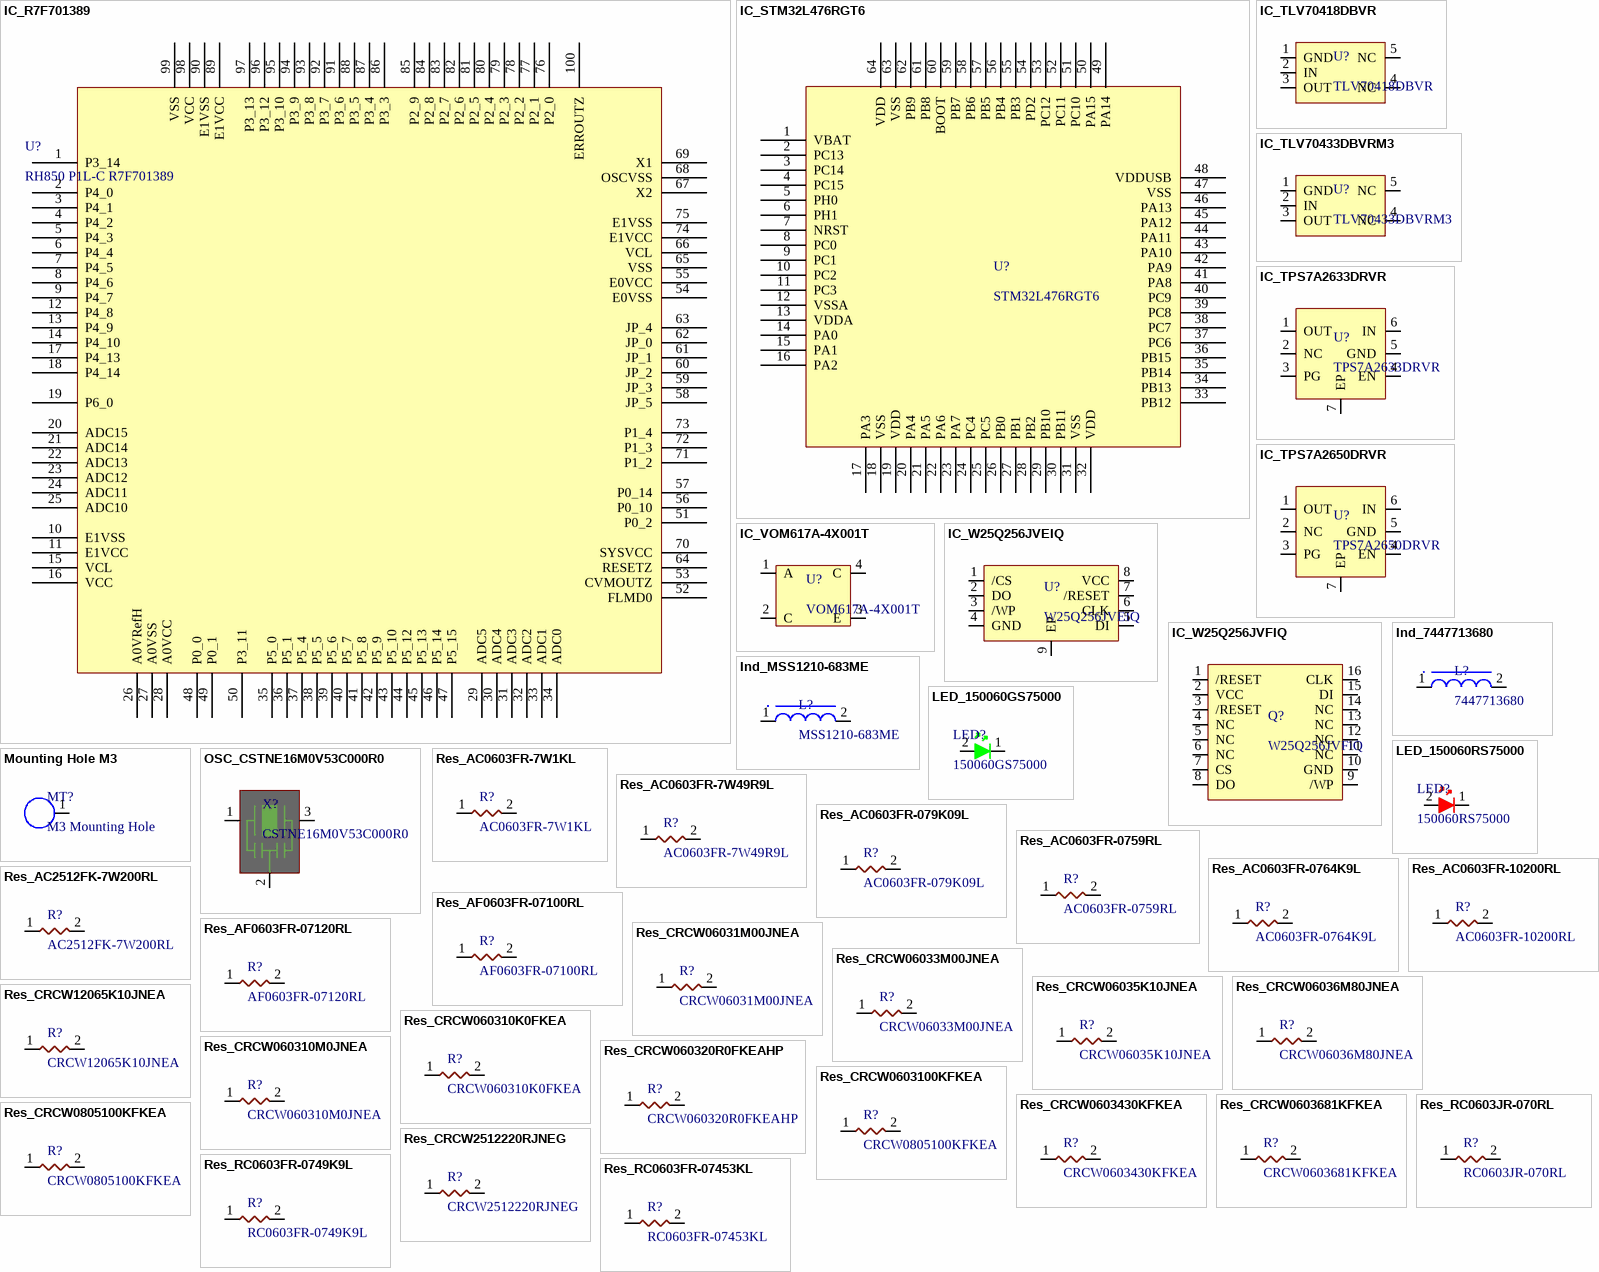
[diagram p3: symbols IC_R7F701389 to Res_RC0603JR-070RL]

## IC_R7F701389
designator U?, comment RH850 P1L-C R7F701389
Renesas 32 bit dual core MCU 120MHz, 100KB RAM, 1024KB Program Memory, 64KB Data Flash, QFP 100, ADC 12,; Manufacturer Part Number: R7F701389EAFP; Data Flash: 1 MB; AEC-Q: 100; Max Temp: 150 degC; Min Temp: -40 degC; Value: 120 MHz; Package: LQFP100; RAM: 100KB; Manufacturer: Renesas; RoHS: Yes; Category: MCU; Supplier: Mouser; Supplier 1 pricing per Unit: 1487.5 INR; ComponentLink1Description: Datasheet; ComponentLink1URL: https://www.renesas.com/us/en/document/mah/rh850p1l-c-group-users-manual-hardware-r01uh0592ej0120?r=1054221; Supplier 1: Digikey; Value 1: R7F701389EAFP; Value Display: MCU; Supplier 1 Part Number: 559-R7F701389EAFP-C#BA1-ND; Supplier Part Number: 968-7F701389EAFPCBA1; Supplier pricing per Unit: 1487.5 INR; Mount Type: Surface Mount
pins: 1 P3_14, 2 P4_0, 3 P4_1, 4 P4_2, 5 P4_3, 6 P4_4, 7 P4_5, 8 P4_6, 9 P4_7, 10 E1VSS, 11 E1VCC, 12 P4_8, 13 P4_9, 14 P4_10, 15 VCL, 16 VCC, 17 P4_13, 18 P4_14, 19 P6_0, 20 ADC15, 21 ADC14, 22 ADC13, 23 ADC12, 24 ADC11, 25 ADC10, 26 A0VRefH, 27 A0VSS, 28 A0VCC, 29 ADC5, 30 ADC4, 31 ADC3, 32 ADC2, 33 ADC1, 34 ADC0, 35 P5_0, 36 P5_1, 37 P5_4, 38 P5_5, 39 P5_6, 40 P5_7, 41 P5_8, 42 P5_9, 43 P5_10, 44 P5_12, 45 P5_13, 46 P5_14, 47 P5_15, 48 P0_0, 49 P0_1, 50 P3_11, 51 P0_2, 52 FLMD0, 53 CVMOUTZ, 54 E0VSS, 55 E0VCC, 56 P0_10, 57 P0_14, 58 JP_5, 59 JP_3, 60 JP_2, 61 JP_1, 62 JP_0, 63 JP_4, 64 RESETZ, 65 VSS, 66 VCL, 67 X2, 68 OSCVSS, 69 X1, 70 SYSVCC, 71 P1_2, 72 P1_3, 73 P1_4, 74 E1VCC, 75 E1VSS, 76 P2_0, 77 P2_1, 78 P2_2, 79 P2_3, 80 P2_4, 81 P2_5, 82 P2_6, 83 P2_7, 84 P2_8, 85 P2_9, 86 P3_3, 87 P3_4, 88 P3_5, 89 E1VCC, 90 E1VSS, 91 P3_6, 92 P3_7, 93 P3_8, 94 P3_9, 95 P3_10, 96 P3_12, 97 P3_13, 98 VCC, 99 VSS, 100 ERROUTZ

## IC_STM32L476RGT6
designator U?, comment STM32L476RGT6
Ultra-low-power with FPU Arm Cortex-M4 MCU 80 MHz with 1 Mbyte of Flash memory, LCD, USB OTG, DFSDM; Manufacturer: ST; AEC-Q: NA; Max Temp: 85 degC; Min Temp: -40 degC; Value: 80 MHz; Data Flash: 1 MB; Category: MCU; Manufacturer Part Number: STM32L476RGT6; Package: LQFP64; ComponentLink1Description: Datasheet; Supplier: Mouser; Supplier 1: Digikey; ComponentLink1URL: https://www.st.com/content/ccc/resource/technical/document/datasheet/c5/ed/2f/60/aa/79/42/0b/DM00108832.pdf/files/DM00108832.pdf/jcr:content/translations/en.DM00108832.pdf; Mount Type: Surface Mount; RoHS: Yes; Supplier 1 pricing per Unit: 896.34 INR; Value 1: STM32L476RGT6; Value Display: MCU; Supplier 1 Part Number: 497-15877-ND; Supplier Part Number: 511-STM32L476RGT6; Supplier pricing per Unit: 830.66 INR
footprint CQFP50P1225X1225X160-64N STM32 (CQFP, 64-Leads, Body 12.25x12.25mm, Pitch 0.50mm, IPC Medium Density)
pins: 1 VBAT, 2 PC13, 3 PC14, 4 PC15, 5 PH0, 6 PH1, 7 NRST, 8 PC0, 9 PC1, 10 PC2, 11 PC3, 12 VSSA, 13 VDDA, 14 PA0, 15 PA1, 16 PA2, 17 PA3, 18 VSS, 19 VDD, 20 PA4, 21 PA5, 22 PA6, 23 PA7, 24 PC4, 25 PC5, 26 PB0, 27 PB1, 28 PB2, 29 PB10, 30 PB11, 31 VSS, 32 VDD, 33 PB12, 34 PB13, 35 PB14, 36 PB15, 37 PC6, 38 PC7, 39 PC8, 40 PC9, 41 PA8, 42 PA9, 43 PA10, 44 PA11, 45 PA12, 46 PA13, 47 VSS, 48 VDDUSB, 49 PA14, 50 PA15, 51 PC10, 52 PC11, 53 PC12, 54 PD2, 55 PB3, 56 PB4, 57 PB5, 58 PB6, 59 PB7, 60 BOOT, 61 PB8, 62 PB9, 63 VSS, 64 VDD

## IC_TLV70418DBVR
designator U?, comment TLV70418DBVR
Linear Voltage Regulator IC Positive Fixed 1.8V Output 150mA SOT-23-5,Very low Qc; Manufacturer: Texas Instruments; AEC-Q: NA; Max Temp: 125 degC; Min Temp: -40 degC; Value: 1.8V - 150mA; Voltage: 24V (Max); Category: LDO; ComponentLink1Description: Datasheet; ComponentLink1URL: https://www.ti.com/lit/ds/symlink/tlv704.pdf?ts=1695222240730&ref_url=https%253A%252F%252Fwww.google.com%252F; Manufacturer Part Number: TLV70418DBVR; Mount Type: Surface Mount; Package: SOT 23-5; RoHS: Yes; Supplier 1: Digikey; Supplier 1 Part Number: 296-TLV70418DBVRCT-ND; Supplier 1 pricing per Unit: 54.25 INR; Supplier: Mouser; Supplier Part Number: 595-TLV70418DBVR; Supplier pricing per Unit: 55.04 INR; Value 1: TLV70418DBVR; Value Display: 1.8V - 150mA
footprint SOT95P280X145-5N TLV40 (SOT23, 5-Leads, Body 2.90x2.80mm, Pitch 0.95mm, IPC Medium Density)
pins: 1 GND, 2 IN, 3 OUT, 4 NC, 5 NC

## IC_TLV70433DBVRM3
designator U?, comment TLV70433DBVRM3
Linear Voltage Regulator IC Positive Fixed 3.3V Output 150mA SOT-23-5,Very low Qc; Manufacturer: Texas Instruments; AEC-Q: NA; Max Temp: 125 degC; Min Temp: -40 degC; Value: 3.3V - 150mA; Value Display: 3.3V, 150mA; Voltage: 24V (Max); Manufacturer Part Number: TLV70433DBVRM3; Category: LDO; ComponentLink1Description: Datasheet; ComponentLink1URL: https://www.ti.com/lit/ds/symlink/tlv704.pdf?ts=1695222240730&ref_url=https%253A%252F%252Fwww.google.com%252F; Mount Type: Surface Mount; Package: SOT 23-5; RoHS: Yes; Supplier 1: Digikey; Supplier 1 Part Number: 296-TLV70433DBVRM3CT-ND; Supplier 1 pricing per Unit: 55.20 INR; Supplier: Mouser; Supplier Part Number: 595-TLV70433DBVRM3; Supplier pricing per Unit: 55.04 INR; Value 1: TLV70433DBVRM3
footprint SOT95P280X145-5N TLV40 (SOT23, 5-Leads, Body 2.90x2.80mm, Pitch 0.95mm, IPC Medium Density)
pins: 1 GND, 2 IN, 3 OUT, 4 NC, 5 NC

## IC_TPS7A2633DRVR
designator U?, comment TPS7A2633DRVR
Linear Voltage Regulator IC Positive Fixed 1 Output 500mA 6-WSON (2x2); Manufacturer: Texas Instruments; AEC-Q: NA; Max Temp: 125 degC; Min Temp: -40 degC; Value: 3.3V - 500mA; Voltage: 18V (Max); Category: LDO; ComponentLink1Description: Datasheet; ComponentLink1URL: https://www.ti.com/lit/ds/symlink/tps7a26.pdf?HQS=dis-dk-null-digikeymode-dsf-pf-null-wwe&ts=1722407158871; Manufacturer Part Number: TPS7A2633DRVR; Mount Type: Surface Mount; Package: WSON-6; RoHS: Yes; Supplier 1: Digikey; Supplier 1 Part Number: 296-TPS7A2633DRVRCT-ND; Supplier 1 pricing per Unit: 85.37 INR; Supplier: Mouser; Supplier Part Number: 595-TPS7A2633DRVR; Supplier pricing per Unit: 85.07 INR; Value 1: TPS7A2633DRVR; Value Display: 3.3V - 500mA
footprint PSON65P200X80_HS-7N (PSON, 6-Leads, Body 2.00x2.00mm, Pitch 0.65mm, Thermal Pad 1.65x0.96mm, IPC Medium Density)
pins: 1 OUT, 2 NC, 3 PG, 4 EN, 5 GND, 6 IN, 7 EP

## IC_TPS7A2650DRVR
designator U?, comment TPS7A2650DRVR
Linear Voltage Regulator IC Positive Fixed 1 Output 500mA 6-WSON (2x2); Manufacturer: Texas Instruments; AEC-Q: NA; Max Temp: 125 degC; Min Temp: -40 degC; Value: 5V - 500 mA; Voltage: 18V (Max); Category: LDO; ComponentLink1Description: Datasheet; ComponentLink1URL: https://www.ti.com/lit/ds/symlink/tps7a26.pdf?HQS=dis-dk-null-digikeymode-dsf-pf-null-wwe&ts=1722407158871; Manufacturer Part Number: TPS7A2650DRVR; Mount Type: Surface Mount; Package: WSON-6; RoHS: Yes; Supplier 1: Digikey; Supplier 1 Part Number: 296-TPS7A2650DRVRCT-ND; Supplier 1 pricing per Unit: 59.43 INR; Supplier: Mouser; Supplier Part Number: 595-TPS7A2650DRVR; Supplier pricing per Unit: 85.07 INR; Value 1: TPS7A2650DRVR; Value Display: 5V - 500 mA
footprint PSON65P200X80_HS-7N (PSON, 6-Leads, Body 2.00x2.00mm, Pitch 0.65mm, Thermal Pad 1.65x0.96mm, IPC Medium Density)
pins: 1 OUT, 2 NC, 3 PG, 4 EN, 5 GND, 6 IN, 7 EP

## IC_VOM617A-4X001T
designator U?, comment VOM617A-4X001T
Optoisolator Transistor Output 3750Vrms 1 Channel 4-SOP; Manufacturer: Vishay Dale; AEC-Q: NA; Max Temp: 110 degC; Min Temp: -55 degC; Value: 1.6V - 60mA/ 80V - 100mA; Category: Opto Coupler; ComponentLink1Description: Datasheet; ComponentLink1URL: https://www.vishay.com/docs/83446/vom617a.pdf; Manufacturer Part Number: VOM617A-4X001T; Mount Type: Surface Mount; Package: SOP 4; RoHS: Yes; Supplier 1: Digikey; Supplier 1 Part Number: VOM617A-4X001TCT-ND; Supplier 1 pricing per Unit: 52.14 INR; Supplier: Mouser; Supplier Part Number: 78-VOM617A-4X001T; Supplier pricing per Unit: 52.71 INR; Value 1: VOM617A-4X001T; Value Display: 1.6V - 60mA/ 80V - 100mA; Voltage: 3750 VRMS
footprint SOIC127P700X220-4N TLP293 (SOIC, 4-Leads, Body 2.65x4.60mm, Pitch 1.27mm, IPC Medium Density)
pins: 1 A, 2 C, 3 E, 4 C

## IC_W25Q256JVEIQ
designator U?, comment W25Q256JVEIQ
FLASH - NOR Memory IC 256Mbit SPI - Quad I/O 133 MHz 8-WSON (8x6); Manufacturer: Winbond; AEC-Q: NA; Max Temp: 85 degC; Min Temp: -40 degC; Value: 4 kb 256Mbit; Voltage: 3.3V; Category: Flash Memory; ComponentLink1Description: Datasheet; ComponentLink1URL: https://www.winbond.com/hq/support/documentation/levelOne.jsp?__locale=en&DocNo=DA00-W25Q256JV; Data Flash: 256Mbit; Manufacturer Part Number: W25Q256JVEIQ; Mount Type: Surface Mount; Package: WSON-8; RoHS: Yes; Supplier 1: Digikey; Supplier 1 Part Number: W25Q256JVEIQ-ND; Supplier 1 pricing per Unit: 268.68 INR; Supplier: Mouser; Supplier Part Number: 454-W25Q256JVEIQ; Supplier pricing per Unit: 267.71 INR; Value 1: W25Q256JVEIQ; Value Display: W25Q256JVEIQ
footprint SON127P800X80_HS-9N (SON, 8-Leads, Body 6.00x8.00mm, Pitch 1.27mm, Thermal Pad 4.30x3.40mm, IPC Medium Density)
pins: 1 /CS, 2 DO, 3 /WP, 4 GND, 5 DI, 6 CLK, 7 /RESET, 8 VCC, 9 EP

## IC_W25Q256JVFIQ
designator Q?, comment W25Q256JVFIQ
FLASH - NOR Memory IC 256Mbit SPI - Quad I/O 133 MHz 16-SOIC; Manufacturer: Winbond; AEC-Q: NA; Max Temp: 85 degC; Min Temp: -40 degC; Value: 4 kb 256Mbit; Voltage: 3.3V; Category: Flash Memory; ComponentLink1Description: Datasheet; ComponentLink1URL: https://www.winbond.com/hq/support/documentation/levelOne.jsp?__locale=en&DocNo=DA00-W25Q256JV; Data Flash: 256Mbit; Manufacturer Part Number: W25Q256JVFIQ; Mount Type: Surface Mount; Package: SOIC - 16; RoHS: Yes; Supplier 1: Digikey; Supplier 1 Part Number: W25Q256JVFIQ-ND; Supplier 1 pricing per Unit: 268.68 INR; Supplier: Mouser; Supplier Part Number: 454-W25Q256JVFIQ; Supplier pricing per Unit: 256.87 INR; Value 1: W25Q256JVFIQ; Value Display: W25Q256JVFIQ
footprint SOIC127P1030X264-16N (SOIC, 16-Leads, Body 10.65x7.44mm, Pitch 1.27mm, IPC Medium Density)
pins: 1 /RESET, 2 VCC, 3 /RESET, 4 NC, 5 NC, 6 NC, 7 CS, 8 DO, 9 /WP, 10 GND, 11 NC, 12 NC, 13 NC, 14 NC, 15 DI, 16 CLK

## Ind_7447713680
designator L?, comment 7447713680
68 µH Shielded Drum Core, Wirewound Inductor 1.1 A 330mOhm Max Nonstandard; Manufacturer: Wurth Electronik; AEC-Q: 200; Max Temp: 125 degC; Min Temp: -40 degC; Value: 68uH - 1.1A; Manufacturer Part Number: 7447713680; Category: Inductor; ComponentLink1Description: Datasheet; ComponentLink1URL: https://www.we-online.com/components/products/datasheet/7447713680.pdf; Mount Type: Surface Mount; Package: SMT; RoHS: Yes; Supplier 1: Digikey; Supplier 1 Part Number: 732-2983-1-ND; Supplier 1 pricing per Unit: 185.94 INR; Supplier: Mouser; Supplier Part Number: 710-7447713680; Supplier pricing per Unit: 182.65 INR; Value 1: 7447713680; Value Display: 68uH - 1.1A
footprint INDP102102X30N, Inductor (Precision Wire Wound Inductor, 2-Leads, Body 10.25x10.15mm, IPC Medium Density)
pins: 1, 2

## Ind_MSS1210-683ME
designator L?, comment MSS1210-683ME
68 µH Shielded Drum Core, Wirewound Inductor 2.8 A 80mOhm Max Nonstandard; Manufacturer: Coilcraft; Manufacturer Part Number: MSS1210-683MED; AEC-Q: 200; Max Temp: 85 degC; Min Temp: -40 degC; Value: 68uH - 2.8A; Category: Inductor; ComponentLink1Description: Datasheet; ComponentLink1URL: https://www.coilcraft.com/getmedia/f1a1bc5f-bdff-42f8-9ca8-1a0fb1d5094f/MSS1210.pdf; Mount Type: Surface Mount; Package: SMT; RoHS: Yes; Supplier 1: Digikey; Supplier 1 Part Number: 2457-MSS1210-683MED-ND; Supplier 1 pricing per Unit: 334.68 INR; Supplier: Mouser; Supplier Part Number: 994-MSS1210-683MED; Supplier pricing per Unit: 338.36 INR; Value 1: MSS1210-683MED; Value Display: 68uH - 2.8A
footprint INDP120120X102N (Precision Wire Wound Inductor, 2-Leads, Body 12.00x12.00mm, IPC Medium Density)
pins: 1, 2

## LED_150060GS75000
designator LED?, comment 150060GS75000
Green 520nm LED Indication - Discrete 3.2V 0603 (1608 Metric); Manufacturer: Wurth Electronik; AEC-Q: NA; Max Temp: 85 degC; Min Temp: -40 degC; Value: 20mA; Value Display: 3.2V, 20mA; Power: 105mW; Category: LED; Colour: Green; ComponentLink1Description: Datasheet; ComponentLink1URL: https://www.we-online.com/components/products/datasheet/150060GS75000.pdf; Manufacturer Part Number: 150060GS75000; Mount Type: Surface Mount; Package: 0603; RoHS: Yes; Supplier 1: Digikey; Supplier 1 Part Number: 732-4971-1-ND; Supplier 1 pricing per Unit: 12.51 INR; Supplier: Mouser; Supplier Part Number: 710-150060GS75000; Supplier pricing per Unit: 12.51 INR; Value 1: 150060GS75000
footprint DIOC1610X08N LED (Chip Diode, 2-Leads, Body 1.65x0.95mm, IPC Medium Density)
pins: 1 Cathode, 2 Anode

## LED_150060RS75000
designator LED?, comment 150060RS75000
Red 625nm LED Indication - Discrete 2V 0603 (1608 Metric); Manufacturer: Wurth Electronik; Value: 30mA (Cont); Max Temp: 85 degC; Min Temp: -40 degC; Value Display: 2V, 30mA; AEC-Q: NA; Power: 72mW; Manufacturer Part Number: 150060RS75000; Colour: Red; Package: 0603; Category: LED; ComponentLink1Description: Datasheet; ComponentLink1URL: https://www.we-online.com/components/products/datasheet/150060RS75000.pdf; Mount Type: Surface Mount; RoHS: Yes; Supplier 1: Digikey; Supplier 1 Part Number: 732-4978-1-ND; Supplier 1 pricing per Unit: 12.51 INR; Supplier: Mouser; Supplier Part Number: 710-150060RS75000; Supplier pricing per Unit: 12.51 INR; Value 1: 150060RS75000
footprint DIOC1610X08N LED (Chip Diode, 2-Leads, Body 1.65x0.95mm, IPC Medium Density)
pins: 1 Cathode, 2 Anode

## Mounting Hole M3
designator MT?, comment M3 Mounting Hole  (no BOM)
footprint Mounting Hole (Mounting Hole  M6)
pins: 1

## OSC_CSTNE16M0V53C000R0
designator X?, comment CSTNE16M0V53C000R0
16 MHz Ceramic Resonator Built in Capacitor 15 pF ±0.15% 40 Ohms -40°C ~ 125°C Surface Mount; Manufacturer: Murata; Value: 16 MHz; AEC-Q: NA; Max Temp: 125 degC; Min Temp: -40 degC; Manufacturer Part Number: CSTNE16M0V53C000R0; Supplier: Mouser; Category: Oscillator; ComponentLink1Description: Datasheet; ComponentLink1URL: https://www.murata.com/en/products/productdata/8801162166302/SPEC-CSTNE16M0V53C000R0.pdf; Package: SMT; RoHS: Yes; Supplier 1: Digikey; Supplier 1 pricing per Unit: 26.68 INR; Value 1: CSTNE16M0V53C000R0; Value Display: 16 MHz; Supplier 1 Part Number: 490-17949-1-ND; Supplier Part Number: 81-CSTNE16M0V53C000R; Supplier pricing per Unit: 26.69 INR; Mount Type: Surface Mount
footprint OSC_CSTNE16M0V53C000R0 (CSTNE16M0V53C000R0)
pins: 1 Input, 2 GND, 3 Output

## Res_AC0603FR-7W1KL
designator R?, comment AC0603FR-7W1KL
SMD Chip Resistor, 1k Ohms ±1% , 1/5W, 0603 (1608 Metric) Anti-Sulfur, Automotive AEC-Q200 Thick Film; Manufacturer: Yageo; AEC-Q: 200; Max Temp: 155 degC; Min Temp: -55 degC; Value: 1k R; Value Display: 1kE, 1%, 0603; Category: Resistor; ComponentLink1Description: Datasheet; ComponentLink1URL: https://www.yageo.com/upload/media/product/productsearch/datasheet/rchip/PYu-AC_51_RoHS_L_10.pdf; Manufacturer Part Number: AC0603FR-7W1KL; Mount Type: Surface Mount; Package: 0603; Power: 1/5 W; RoHS: Yes; Supplier 1: Digikey; Supplier 1 Part Number: 13-AC0603FR-7W1KLCT-ND; Supplier 1 pricing per Unit: 8.34 INR; Supplier: Mouser; Supplier Part Number: 603-AC0603FR-7W1KL; Supplier pricing per Unit: 8.34 INR; Tolerance: 1%; Value 1: AC0603FR-7W1KL
footprint RESC1608X05N 0603 (Chip Resistor, 2-Leads, Body 1.55x0.85mm, IPC Medium Density)
pins: 1, 2

## Res_AC0603FR-7W49R9L
designator R?, comment AC0603FR-7W49R9L
SMD Chip Resistor,49.9 Ohms ±1% 0.1W, 1/10W, 0603 (1608 Metric) Anti-Sulfur, Automotive AEC-Q200 Thick Film; Manufacturer: Yageo; AEC-Q: 200; Max Temp: 155 degC; Min Temp: -55 degC; Value: 49.9R; Value Display: 49.9E, 1%, 0603; Manufacturer Part Number: AC0603FR-7W49R9L; Category: Resistor; ComponentLink1Description: Datasheet; ComponentLink1URL: https://www.yageo.com/upload/media/product/productsearch/datasheet/rchip/PYu-AC_51_RoHS_L_10.pdf; Mount Type: Surface Mount; Package: 0603; Power: 1/10W; RoHS: Yes; Supplier 1: Digikey; Supplier 1 Part Number: 13-AC0603FR-7W49R9LTR-ND; Supplier 1 pricing per Unit: 8.34 INR; Supplier: Mouser; Supplier Part Number: 603-AC0603FR-7W49R9L; Supplier pricing per Unit: 8.34 INR; Tolerance: 1%; Value 1: AC0603FR-7W49R9L
footprint RESC1608X05N 0603 (Chip Resistor, 2-Leads, Body 1.55x0.85mm, IPC Medium Density)
pins: 1, 2

## Res_AC0603FR-079K09L
designator R?, comment AC0603FR-079K09L
SMD Chip Resistor,9.09k Ohms ±1% 0.1W, 1/10W, 0603 (1608 Metric) Anti-Sulfur, Automotive AEC-Q200 Thick Film; Manufacturer: Yageo; AEC-Q: 200; Max Temp: 155 degC; Min Temp: -55 degC; Value: 9.09k R; Value Display: 9.09kE, 1%, 0603; Category: Resistor; ComponentLink1Description: Datasheet; ComponentLink1URL: https://www.yageo.com/upload/media/product/productsearch/datasheet/rchip/PYu-AC_51_RoHS_L_10.pdf; Manufacturer Part Number: AC0603FR-079K09L; Mount Type: Surface Mount; Package: 0603; Power: 1/10W; RoHS: Yes; Supplier 1: Digikey; Supplier 1 Part Number: 13-AC0603FR-079K09LCT-ND; Supplier 1 pricing per Unit: 8.34 INR; Supplier: Mouser; Supplier Part Number: 603-AC0603FR-079K09L; Supplier pricing per Unit: 8.34 INR; Tolerance: 1%; Value 1: AC0603FR-079K09L
footprint RESC1608X05N 0603 (Chip Resistor, 2-Leads, Body 1.55x0.85mm, IPC Medium Density)
pins: 1, 2

## Res_AC0603FR-0759RL
designator R?, comment AC0603FR-0759RL
SMD Chip Resistor,59 Ohms ±1% 0.1W, 1/10W, 0603 (1608 Metric) Anti-Sulfur, Automotive AEC-Q200 Thick Film; Manufacturer: Yageo; AEC-Q: 200; Max Temp: 155 degC; Min Temp: -55 degC; Value: 59R; Value Display: 59E, 1%, 0603; Category: Resistor; ComponentLink1Description: Datasheet; ComponentLink1URL: https://www.yageo.com/upload/media/product/productsearch/datasheet/rchip/PYu-AC_51_RoHS_L_10.pdf; Manufacturer Part Number: AC0603FR-0759RL; Mount Type: Surface Mount; Package: 0603; Power: 1/10W; RoHS: Yes; Supplier 1: Digikey; Supplier 1 Part Number: 13-AC0603FR-0759RLCT-ND; Supplier 1 pricing per Unit: 8.34 INR; Supplier: Mouser; Supplier Part Number: 603-AC0603FR-0759RL; Supplier pricing per Unit: 8.34 INR; Tolerance: 1%; Value 1: AC0603FR-0759RL
footprint RESC1608X05N 0603 (Chip Resistor, 2-Leads, Body 1.55x0.85mm, IPC Medium Density)
pins: 1, 2

## Res_AC0603FR-0764K9L
designator R?, comment AC0603FR-0764K9L
SMD Chip Resistor,64.9k Ohms ±1% 0.1W, 1/10W, 0603 (1608 Metric) Anti-Sulfur, Automotive AEC-Q200 Thick Film; Manufacturer: Yageo; AEC-Q: 200; Max Temp: 155 degC; Min Temp: -55 degC; Value: 64.9k R; Value Display: 64.9kE, 1%, 0603; Category: Resistor; ComponentLink1Description: Datasheet; ComponentLink1URL: https://www.yageo.com/upload/media/product/productsearch/datasheet/rchip/PYu-AC_51_RoHS_L_10.pdf; Manufacturer Part Number: AC0603FR-0764K9L; Mount Type: Surface Mount; Package: 0603; Power: 1/10W; RoHS: Yes; Supplier 1: Digikey; Supplier 1 Part Number: 13-AC0603FR-0764K9LCT-ND; Supplier 1 pricing per Unit: 8.34 INR; Supplier: Mouser; Supplier Part Number: 603-AC0603FR-0764K9L; Supplier pricing per Unit: 8.34 INR; Tolerance: 1%; Value 1: AC0603FR-0764K9L
footprint RESC1608X05N 0603 (Chip Resistor, 2-Leads, Body 1.55x0.85mm, IPC Medium Density)
pins: 1, 2

## Res_AC0603FR-10200RL
designator R?, comment AC0603FR-10200RL
SMD Chip Resistor,200 Ohms ±1% 0.1W, 1/10W, 0603 (1608 Metric) Anti-Sulfur, Automotive AEC-Q200 Thick Film; Manufacturer: Yageo; Value: 200R; Max Temp: 155 degC; Min Temp: -55 degC; Value Display: 200E, 1%,0603; AEC-Q: 200; Manufacturer Part Number: AC0603FR-10200RL; Tolerance: 1%; Category: Resistor; ComponentLink1Description: Datasheet; ComponentLink1URL: https://www.yageo.com/upload/media/product/productsearch/datasheet/rchip/PYu-AC_51_RoHS_L_10.pdf; Mount Type: Surface Mount; Package: 0603; Power: 1/10W; RoHS: Yes; Supplier 1: Digikey; Supplier 1 Part Number: 13-AC0603FR-10200RLCT-ND; Supplier 1 pricing per Unit: 8.34 INR; Supplier: Mouser; Supplier Part Number: 603-AC0603FR-10200RL; Supplier pricing per Unit: 8.34 INR; Value 1: AC0603FR-10200RL
footprint RESC1608X05N 0603 (Chip Resistor, 2-Leads, Body 1.55x0.85mm, IPC Medium Density)
pins: 1, 2

## Res_AC2512FK-7W200RL
designator R?, comment AC2512FK-7W200RL
SMD Chip Resistor,200 Ohms ±1% 2W, 2512 (6432 Metric) Anti-Sulfur,Moisture Resistant Thick Film Automotive AEC-Q200; Manufacturer: Yageo; AEC-Q: 200; Max Temp: 155 degC; Min Temp: -55 degC; Value: 200R; Value Display: 200E, 1%,2512; Category: Resistor; ComponentLink1Description: Datasheet; ComponentLink1URL: https://www.yageo.com/upload/media/product/productsearch/datasheet/rchip/PYu-AC_51_RoHS_L_10.pdf; Manufacturer Part Number: AC2512FK-7W200RL; Mount Type: Surface Mount; Package: 2512; Power: 2W; RoHS: Yes; Supplier 1: Digikey; Supplier 1 Part Number: 13-AC2512FK-7W200RLTR-ND; Supplier 1 pricing per Unit: NA; Supplier: Mouser; Supplier Part Number: 603-AC2512FK-7W200RL; Supplier pricing per Unit: 60.05 INR; Tolerance: 1%; Value 1: AC2512FK-7W200RL
footprint RESC6332X07N 2512 (Chip Resistor, 2-Leads, Body 6.30x3.15mm, IPC Medium Density)
pins: 1, 2

## Res_AF0603FR-07100RL
designator R?, comment AF0603FR-07100RL
SMD Chip Resistor,100 Ohms ±1%, 1/10W, 0603 (1608 Metric) Anti-Sulfur, Automotive AEC-Q200 Thick Film; Manufacturer: Yageo; Value: 100R; Value Display: 100E, 1%,0603; AEC-Q: 200; Max Temp: 155 degC; Min Temp: -55 degC; Category: Resistor; Tolerance: 1%; Package: 0603; Manufacturer Part Number: AF0603FR-07100RL; RoHS: Yes; Power: 1/10W; Supplier: Mouser; Supplier 1 pricing per Unit: 8.34 INR; ComponentLink1Description: Datasheet; ComponentLink1URL: https://www.yageo.com/upload/media/product/app/datasheet/rchip/pyu-af_51_rohs_l.pdf; Supplier 1: Digikey; Value 1: AF0603FR-07100RL; Supplier 1 Part Number: 13-AC0603FR-10150RLCT-ND; Supplier Part Number: 603-AF0603FR-07100RL; Supplier pricing per Unit: 8.34 INR; Mount Type: Surface Mount
footprint RESC1608X05N 0603 (Chip Resistor, 2-Leads, Body 1.55x0.85mm, IPC Medium Density)
pins: 1, 2

## Res_AF0603FR-07120RL
designator R?, comment AF0603FR-07120RL
SMD Chip Resistor,120 Ohms ±1%, 1/10W, 0603 (1608 Metric) Anti-Sulfur, Automotive AEC-Q200 Thick Film; Manufacturer: Yageo; AEC-Q: 200; Max Temp: 155 degC; Min Temp: -55 degC; Value: 120R; Value Display: 120E, 1%,0603; Category: Resistor; ComponentLink1Description: Datasheet; ComponentLink1URL: https://www.yageo.com/upload/media/product/app/datasheet/rchip/pyu-af_51_rohs_l.pdf; Manufacturer Part Number: AF0603FR-07120RL; Mount Type: Surface Mount; Package: 0603; Power: 1/10W; RoHS: Yes; Supplier 1: Digikey; Supplier 1 Part Number: 13-AF0603FR-07120RLCT-ND; Supplier 1 pricing per Unit: 8.34 INR; Supplier: Mouser; Supplier Part Number: 603-AF0603FR-07120RL; Supplier pricing per Unit: 8.34 INR; Tolerance: 1%; Value 1: AF0603FR-07120RL
footprint RESC1608X05N 0603 (Chip Resistor, 2-Leads, Body 1.55x0.85mm, IPC Medium Density)
pins: 1, 2

## Res_CRCW06031M00JNEA
designator R?, comment CRCW06031M00JNEA
SMD Chip Resistor,1 MOhms ±5%, 1/10W, 0603 (1608 Metric) , Automotive AEC-Q200 Thick Film; Manufacturer: Vishay Dale; AEC-Q: 200; Max Temp: 155 degC; Min Temp: -55 degC; Value: 1M R; Category: Resistor; ComponentLink1Description: Datasheet; ComponentLink1URL: https://www.vishay.com/docs/20035/dcrcwe3.pdf; Manufacturer Part Number: CRCW06031M00JNEA; Mount Type: Surface Mount; Package: 0603; Power: 1/10W; RoHS: Yes; Supplier 1: Digikey; Supplier 1 pricing per Unit: 8.34 INR; Supplier: Mouser; Supplier pricing per Unit: 8.34 INR; Tolerance: 5%; Value 1: CRCW06031M00JNEA
footprint RESC1608X05N 0603 (Chip Resistor, 2-Leads, Body 1.55x0.85mm, IPC Medium Density)
pins: 1, 2

## Res_CRCW06033M00JNEA
designator R?, comment CRCW06033M00JNEA
SMD Chip Resistor,3 MOhms ±5%, 1/10W, 0603 (1608 Metric) Anti-Sulfur, Automotive AEC-Q200 Thick Film; Manufacturer: Vishay Dale; AEC-Q: 200; Max Temp: 155 degC; Min Temp: -55 degC; Value: 3M R; Value Display: 3ME, 5%, 0603; Category: Resistor; ComponentLink1Description: Datasheet; ComponentLink1URL: https://www.vishay.com/docs/20035/dcrcwe3.pdf; Manufacturer Part Number: CRCW06033M00JNEA; Mount Type: Surface Mount; Package: 0603; Power: 1/10W; RoHS: Yes; Supplier 1: Digikey; Supplier 1 Part Number: 541-CRCW06033M00JNEACT-ND; Supplier 1 pricing per Unit: 8.34 INR; Supplier: Mouser; Supplier Part Number: 71-CRCW0603J-3M-E3; Supplier pricing per Unit: 8.34 INR; Tolerance: 5%; Value 1: CRCW06033M00JNEA
footprint RESC1608X05N 0603 (Chip Resistor, 2-Leads, Body 1.55x0.85mm, IPC Medium Density)
pins: 1, 2